# Altium footprint library AMPHENOL_10112690-G03-07ULF.PcbLib: 1 footprints
Each footprint in its own frame and in the unit in brackets; x right, y up, seen from the top. Pads: shape width x height; smd on the part's side, far side on the other; paste and mask are expansions set on the pad; w line width, h text height; cw(c..) or ccw(c..) is an arc to the next point about the centre after c.
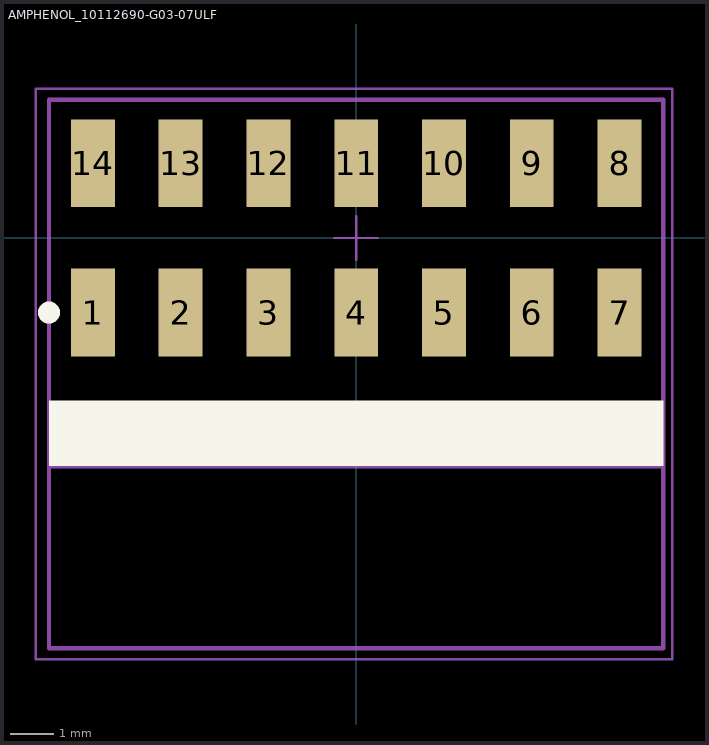
[diagram p0: the footprint, top view; thin cyan lines are the x and y axes]

## AMPHENOL_10112690-G03-07ULF [mm] "AMPHENOL_10112690-G03-07ULF"
height 4.3
pads (14):
  rect 1x2 smd mask+0.05: 1(-6,-1.7) 2(-4,-1.7) 3(-2,-1.7) 4(0,-1.7) 5(2,-1.7) 6(4,-1.7) 7(6,-1.7) 8(6,1.7) 9(4,1.7) 10(2,1.7) 11(0,1.7) 12(-2,1.7) 13(-4,1.7) 14(-6,1.7)
Top Overlay:
  circle w0.4: c-7,-1.7 r0.05
  region: 7,-3.7 -7,-3.7 -7,-5.2 7,-5.2
Top 3D Body:
  lines w0.1: -7,-5.2 -7,-9.35 7,-9.35 7,-5.2 ; -7,-5.2 -7,3.15 7,3.15 7,-5.2 ; -7,-5.2 7,-5.2
  text "Connector Edge" at -5.313,-4.767 h1
Top Courtyard (Mech15):
  lines w0.05: -0.5,0 0.5,0 ; 0,-0.5 0,0.5 ; -7.3,-9.6 -7.3,3.4 7.2,3.4 7.2,-9.6 -7.3,-9.6
3D body "AMPHENOL_10112690-G03-07ULF.stp": height 3.7, standoff -0.35, extent -7,-9.2 7,2.55